# EAGLE library part SN74LVC1G74DCUR (library BlueHome)
SINGLE POSITIVE-EDGE-TRIGGERED D-TYPE FLIP-FLOP WITH CLEAR AND PRESET
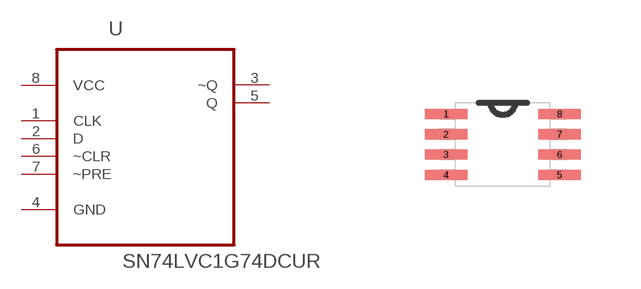
[diagram p17: symbol with the pads of SOP50P310X90-8N; footprint SOP50P310X90-8N]

Designator prefix U

## SN74LVC1G74DCUR (AVAILABILITY: Unavailable; DESCRIPTION: Single Positive-Edge-Triggered D-Type Flip-Flop With Clear and Preset 8-VSSOP -40 to 125; MF: Texas Instruments; MP: SN74LVC1G74DCUR; PACKAGE: VFSOP-8 Texas Instruments; PRICE: None)  [SOP50P310X90-8N]
1  CLK  in
2  D  in
3  ~Q  out
4  GND  pas
5  Q  out
6  ~CLR  in
7  ~PRE  in
8  VCC  pwr

## Footprint SOP50P310X90-8N (pad centres in mm)
smd 1.067 x 0.254: 1 -1.422,0.762; 2 -1.422,0.254; 3 -1.422,-0.254; 4 -1.422,-0.762; 5 1.422,-0.762; 6 1.422,-0.254; 7 1.422,0.254; 8 1.422,0.762